# EAGLE library part STM32F415RG (library STMicroelectronics)
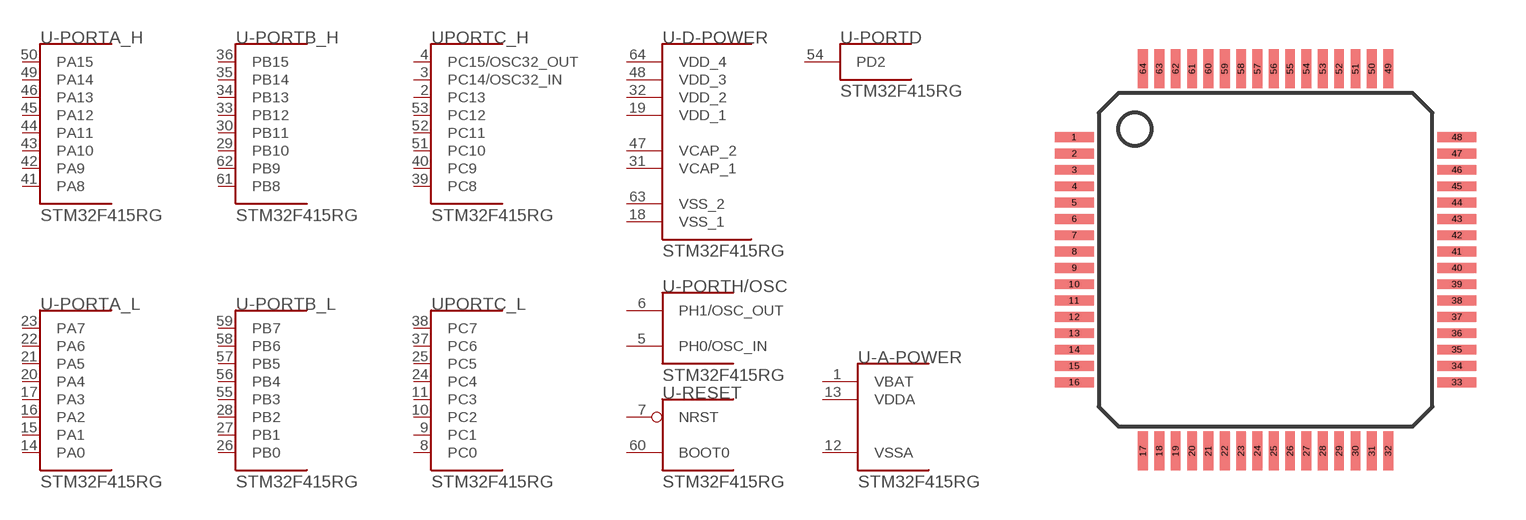
[diagram p0: symbol with the pads of LQFP64; footprint LQFP64]

Designator prefix U; gates -PORTA_L=STM32F_PORTA_L -PORTA_H=STM32F_PORTA_H -PORTB_L=STM32F_PORTB_L -PORTB_H=STM32F_PORTB_H PORTC_L=STM32F_PORTC_L PORTC_H=STM32F_PORTC_H -PORTH/OSC=STM32F_PORTH_L -RESET=STM32F415RG_RESET -D-POWER=STM32F415RG_D-POWER -A-POWER=STM32FXXXRX_A-POWER -PORTD=STM32FXXXRX_PORTD

## STM32F415RG (DISTRIBUTOR: Digikey; OC_DIGIKEY: 497-11767-ND; ORDER_CODE: 497-11767-ND)  [LQFP64]
1  -A-POWER:VBAT  pwr
2  PORTC_H:PC13
3  PORTC_H:PC14/OSC32_IN
4  PORTC_H:PC15/OSC32_OUT
5  -PORTH/OSC:PH0/OSC_IN  in
6  -PORTH/OSC:PH1/OSC_OUT  out
7  -RESET:NRST  in
8  PORTC_L:PC0
9  PORTC_L:PC1
10  PORTC_L:PC2
11  PORTC_L:PC3
12  -A-POWER:VSSA  pwr
13  -A-POWER:VDDA  pwr
14  -PORTA_L:PA0
15  -PORTA_L:PA1
16  -PORTA_L:PA2
17  -PORTA_L:PA3
18  -D-POWER:VSS_1  pwr
19  -D-POWER:VDD_1  pwr
20  -PORTA_L:PA4
21  -PORTA_L:PA5
22  -PORTA_L:PA6
23  -PORTA_L:PA7
24  PORTC_L:PC4
25  PORTC_L:PC5
26  -PORTB_L:PB0
27  -PORTB_L:PB1
28  -PORTB_L:PB2
29  -PORTB_H:PB10
30  -PORTB_H:PB11
31  -D-POWER:VCAP_1  pwr
32  -D-POWER:VDD_2  pwr
33  -PORTB_H:PB12
34  -PORTB_H:PB13
35  -PORTB_H:PB14
36  -PORTB_H:PB15
37  PORTC_L:PC6
38  PORTC_L:PC7
39  PORTC_H:PC8
40  PORTC_H:PC9
41  -PORTA_H:PA8
42  -PORTA_H:PA9
43  -PORTA_H:PA10
44  -PORTA_H:PA11
45  -PORTA_H:PA12
46  -PORTA_H:PA13
47  -D-POWER:VCAP_2  pwr
48  -D-POWER:VDD_3  pwr
49  -PORTA_H:PA14
50  -PORTA_H:PA15
51  PORTC_H:PC10
52  PORTC_H:PC11
53  PORTC_H:PC12
54  -PORTD:PD2  in
55  -PORTB_L:PB3
56  -PORTB_L:PB4
57  -PORTB_L:PB5
58  -PORTB_L:PB6
59  -PORTB_L:PB7
60  -RESET:BOOT0  in
61  -PORTB_H:PB8
62  -PORTB_H:PB9
63  -D-POWER:VSS_2  pwr
64  -D-POWER:VDD_4  pwr

## Footprint LQFP64 (pad centres in mm)
smd 1.2 x 0.3: 1 -5.85,3.75; 2 -5.85,3.25; 3 -5.85,2.75; 4 -5.85,2.25; 5 -5.85,1.75; 6 -5.85,1.25; 7 -5.85,0.75; 8 -5.85,0.25; 9 -5.85,-0.25; 10 -5.85,-0.75; 11 -5.85,-1.25; 12 -5.85,-1.75; 13 -5.85,-2.25; 14 -5.85,-2.75; 15 -5.85,-3.25; 16 -5.85,-3.75; 33 5.85,-3.75; 34 5.85,-3.25; 35 5.85,-2.75; 36 5.85,-2.25; 37 5.85,-1.75; 38 5.85,-1.25; 39 5.85,-0.75; 40 5.85,-0.25; 41 5.85,0.25; 42 5.85,0.75; 43 5.85,1.25; 44 5.85,1.75; 45 5.85,2.25; 46 5.85,2.75; 47 5.85,3.25; 48 5.85,3.75
smd 0.3 x 1.2: 17 -3.75,-5.85; 18 -3.25,-5.85; 19 -2.75,-5.85; 20 -2.25,-5.85; 21 -1.75,-5.85; 22 -1.25,-5.85; 23 -0.75,-5.85; 24 -0.25,-5.85; 25 0.25,-5.85; 26 0.75,-5.85; 27 1.25,-5.85; 28 1.75,-5.85; 29 2.25,-5.85; 30 2.75,-5.85; 31 3.25,-5.85; 32 3.75,-5.85; 49 3.75,5.85; 50 3.25,5.85; 51 2.75,5.85; 52 2.25,5.85; 53 1.75,5.85; 54 1.25,5.85; 55 0.75,5.85; 56 0.25,5.85; 57 -0.25,5.85; 58 -0.75,5.85; 59 -1.25,5.85; 60 -1.75,5.85; 61 -2.25,5.85; 62 -2.75,5.85; 63 -3.25,5.85; 64 -3.75,5.85